# Altium footprint library TMDE_REV1.0.PcbLib: 84 footprints (part 4 of 6)
Each footprint in its own frame and in the unit in brackets; x right, y up, seen from the top. Pads: shape width x height; smd on the part's side, far side on the other; paste and mask are expansions set on the pad; w line width, h text height; cw(c..) or ccw(c..) is an arc to the next point about the centre after c.
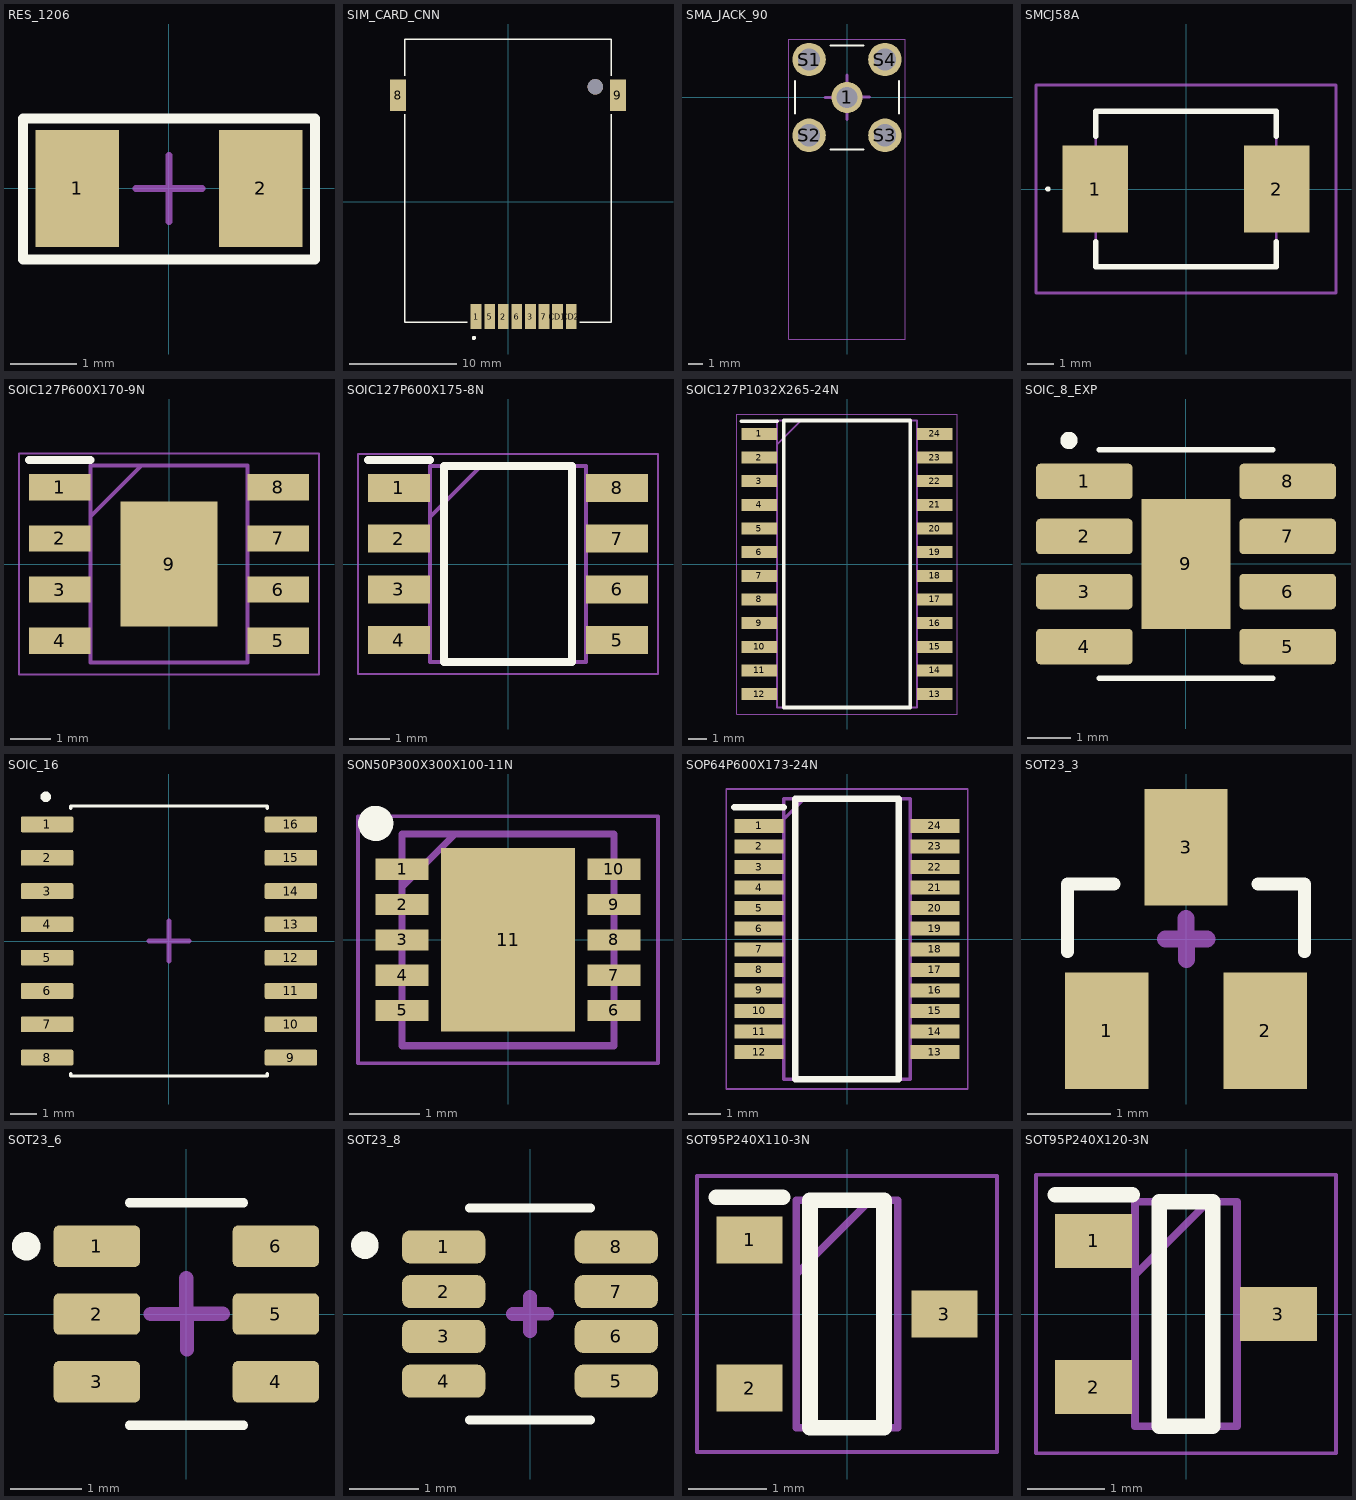
[diagram p3: the footprints below, top view; thin cyan lines are the x and y axes]

## RES_1206 [mm]
pads (2):
  rect 1.25x1.75 smd mask+0.102: 1(-1.375,0) 2(1.375,0)
Top Overlay:
  lines w0.15: -2.187,-1.063 -2.187,1.047 -1.232,1.047 2.187,1.047 2.187,-1.063 -2.187,-1.063
Mechanical 16:
  lines w0.1: -0.5,0 0.5,0 ; 0,-0.5 0,0.5
3D body "1206 SMD Resistor.STEP": height 1, standoff 0, extent -1.6,-0.8 1.6,0.8

## SIM_CARD_CNN [mm]
pads (11):
  rect 1x2.3 smd: 1(-2.985,-10.735) 2(-0.445,-10.735) 3(2.095,-10.735) 5(-1.715,-10.735) 6(0.825,-10.735) 7(3.365,-10.735) CD1(4.635,-10.735) CD2(5.905,-10.735)
  rect 1.5x2.95 smd: 8(-10.275,9.965) 9(10.275,9.965)
  round 1.45 hole 1.45 unplated: ""(8.165,10.735)
Top Overlay:
  circle w0.2: c-3.185,-12.735 r0.1
  lines w0.127: -9.675,8.165 -9.675,-11.285 -3.805,-11.285 ; -9.675,11.765 -9.675,15.215 9.675,15.215 9.675,11.765 ; 6.725,-11.285 9.675,-11.285 9.675,8.165
3D body "47553-2001.stp": height 1.94, standoff -0.56, extent -10.512,-11.662 10.438,14.838

## SMA_JACK_90 [mm]
pads (5):
  round 2.1 hole 1.4: 1(0,0)
  round 2.25 hole 1.5: S1(-2.55,2.55) S2(-2.55,-2.55) S3(2.55,-2.55) S4(2.55,2.55)
Top Overlay:
  lines w0.127: -3.5,-1.1 -3.5,1.1 ; -1.1,-3.5 1.1,-3.5 ; -1.1,3.5 1.1,3.5 ; 3.5,-1.1 3.5,1.1
Mechanical 15:
  lines w0.05: -3.93,-16.25 -3.93,3.93 3.93,3.93 3.93,-16.25 -3.93,-16.25
Mechanical 16:
  lines w0.2: -1.492,0.004 0.008,0.004 ; 0,0 0,1.5 ; 0.008,-1.486 0.008,0.014 1.508,0.014
3D body "step_temp.STEP": height 11.7, standoff -3.9, extent -5.071,-16.016 5.124,3.484

## SMCJ58A [mm]
pads (2):
  rect 2.5x3.3 smd: 1(-3.45,0) 2(3.45,0)
Top Overlay:
  lines w0.1: -5.3,0 cw(c-5.25,0) -5.2,0 cw(c-5.25,0) -5.3,0
  lines w0.2: -3.428,-2 -3.428,-2.953 3.428,-2.953 3.428,-2 ; -3.428,2 -3.428,2.953 3.428,2.953 3.428,2
Mechanical 13:
  lines w0.1: -3.428,-2.953 -3.428,2.953 3.428,2.953 3.428,-2.953 -3.428,-2.953
Mechanical 15:
  lines w0.1: -5.7,-3.953 -5.7,3.953 5.7,3.953 5.7,-3.953 -5.7,-3.953
3D body "SMCJ58A.stp": height 2.62, standoff 0, extent -3.97,-2.953 3.97,2.953

## SOIC127P600X170-9N [mm]
pads (9):
  rect 1.525x0.65 smd: 1(-2.712,1.905) 2(-2.712,0.635) 3(-2.712,-0.635) 4(-2.712,-1.905) 5(2.712,-1.905) 6(2.712,-0.635) 7(2.712,0.635) 8(2.712,1.905)
  rect 2.4x3.1 smd: 9(0,0)
Top Overlay:
  lines w0.2: -3.475,2.58 -1.95,2.58
Mechanical 13:
  lines w0.1: -1.95,1.18 -0.68,2.45 ; -1.95,-2.45 1.95,-2.45 1.95,2.45 -1.95,2.45 -1.95,-2.45
Mechanical 15:
  lines w0.05: -3.725,-2.75 3.725,-2.75 3.725,2.75 -3.725,2.75 -3.725,-2.75
3D body "TPS54360QDDARQ1.stp": height 1.57, standoff 0, extent -3,-2.45 3,2.45

## SOIC127P600X175-8N [mm]
pads (8):
  rect 1.55x0.7 smd: 1(-2.725,1.905) 2(-2.725,0.635) 3(-2.725,-0.635) 4(-2.725,-1.905) 5(2.725,-1.905) 6(2.725,-0.635) 7(2.725,0.635) 8(2.725,1.905)
Top Overlay:
  lines w0.2: -3.5,2.605 -1.95,2.605 ; -1.6,-2.45 -1.6,2.45 1.6,2.45 1.6,-2.45 -1.6,-2.45
Mechanical 13:
  lines w0.1: -1.95,1.18 -0.68,2.45 ; -1.95,-2.45 -1.95,2.45 1.95,2.45 1.95,-2.45 -1.95,-2.45
Mechanical 15:
  lines w0.05: -3.75,-2.75 -3.75,2.75 3.75,2.75 3.75,-2.75 -3.75,-2.75
3D body "TJA1042T_1J.stp": height 1.75, standoff 0, extent -3,-2.45 3,2.45

## SOIC127P1032X265-24N [mm]
pads (24):
  rect 1.925x0.65 smd: 1(-4.712,6.985) 2(-4.712,5.715) 3(-4.712,4.445) 4(-4.712,3.175) 5(-4.712,1.905) 6(-4.712,0.635) 7(-4.712,-0.635) 8(-4.712,-1.905) 9(-4.712,-3.175) 10(-4.712,-4.445) 11(-4.712,-5.715) 12(-4.712,-6.985) 13(4.712,-6.985) 14(4.712,-5.715) 15(4.712,-4.445) 16(4.712,-3.175) 17(4.712,-1.905) 18(4.712,-0.635) 19(4.712,0.635) 20(4.712,1.905) 21(4.712,3.175) 22(4.712,4.445) 23(4.712,5.715) 24(4.712,6.985)
Top Overlay:
  lines w0.2: -5.675,7.66 -3.75,7.66 ; -3.4,-7.7 3.4,-7.7 3.4,7.7 -3.4,7.7 -3.4,-7.7
Mechanical 13:
  lines w0.1: -3.75,6.43 -2.48,7.7 ; -3.75,-7.7 3.75,-7.7 3.75,7.7 -3.75,7.7 -3.75,-7.7
Mechanical 15:
  lines w0.05: -5.925,-8.05 5.925,-8.05 5.925,8.05 -5.925,8.05 -5.925,-8.05
3D body "MAX7219CWG+T.stp": height 2.65, standoff 0, extent -5.162,-7.7 5.162,7.7

## SOIC_8_EXP [mm]
pads (9):
  rrect25% 2.23x0.82 smd: 1(-2.345,1.905) 2(-2.345,0.635) 3(-2.345,-0.635) 4(-2.345,-1.905) 5(2.345,-1.905) 6(2.345,-0.635) 7(2.345,0.635) 8(2.345,1.905)
  rect 2.06x3 smd paste-3: 9(0,0)
Top Overlay:
  circle w0.2: c-2.7,2.85 r0.1
  lines w0.127: -2,-2.635 2,-2.635 ; -2,2.635 2,2.635
Top Paste:
  region: 0.515,-0.75 -0.515,-0.75 -0.515,0.75 0.515,0.75
Mechanical 16:
  lines w0.254: -0.651,-0.007 -0.016,-0.007 -0.016,-0.642 ; -0.016,0.018 0.619,0.018 ; 0,0 0,0.635
3D body "IC8_AP64351SP-13_DIO.step": height 1.63, standoff -0.05, extent -3.073,-2.476 3.027,2.476

## SOIC_16 [mm]
pads (16):
  rrect17% 2x0.6 smd mask+0: 1(-4.65,4.445) 2(-4.65,3.175) 3(-4.65,1.905) 4(-4.65,0.635) 5(-4.65,-0.635) 6(-4.65,-1.905) 7(-4.65,-3.175) 8(-4.65,-4.445) 9(4.65,-4.445) 10(4.65,-3.175) 11(4.65,-1.905) 12(4.65,-0.635) 13(4.65,0.635) 14(4.65,1.905) 15(4.65,3.175) 16(4.65,4.445)
Top Overlay:
  circle w0.2: c-4.7,5.5 r0.1
  lines w0.127: -3.75,-5.065 -3.75,-5.15 3.75,-5.15 3.75,-5.065 ; -3.75,5.065 -3.75,5.15 3.75,5.15 3.75,5.065
Top Solder:
  drawing of 16 lines, arcs and shapes, not listed
Mechanical 16:
  lines w0.2: -0.75,0 0,0 ; 0,-0.75 0,0 ; 0,0.75 0,0 ; 0.75,0 0,0
3D body "step_temp.STEP": height 2.65, standoff 0, extent -5.15,-5.15 5.15,5.15

## SON50P300X300X100-11N [mm]
pads (11):
  rect 0.75x0.3 smd: 1(-1.5,1) 2(-1.5,0.5) 3(-1.5,0) 4(-1.5,-0.5) 5(-1.5,-1) 6(1.5,-1) 7(1.5,-0.5) 8(1.5,0) 9(1.5,0.5) 10(1.5,1)
  rect 1.9x2.6 smd: 11(0,0)
Top Overlay:
  circle w0.25: c-1.875,1.65 r0.125
Mechanical 13:
  lines w0.1: -1.5,0.75 -0.75,1.5 ; -1.5,-1.5 -1.5,1.5 1.5,1.5 1.5,-1.5 -1.5,-1.5
Mechanical 15:
  lines w0.05: -2.125,-1.75 -2.125,1.75 2.125,1.75 2.125,-1.75 -2.125,-1.75
3D body "NCP59744MN1ADJTBG.stp": height 1, standoff 0, extent -1.55,-1.5 1.55,1.5

## SOP64P600X173-24N [mm]
pads (24):
  rect 1.522x0.435 smd: 1(-2.714,3.492) 2(-2.714,2.858) 3(-2.714,2.222) 4(-2.714,1.588) 5(-2.714,0.952) 6(-2.714,0.318) 7(-2.714,-0.318) 8(-2.714,-0.952) 9(-2.714,-1.588) 10(-2.714,-2.222) 11(-2.714,-2.858) 12(-2.714,-3.492) 13(2.714,-3.492) 14(2.714,-2.858) 15(2.714,-2.222) 16(2.714,-1.588) 17(2.714,-0.952) 18(2.714,-0.318) 19(2.714,0.318) 20(2.714,0.952) 21(2.714,1.588) 22(2.714,2.222) 23(2.714,2.858) 24(2.714,3.492)
Top Overlay:
  lines w0.2: -3.475,4.06 -1.952,4.06 ; -1.602,-4.33 -1.602,4.33 1.602,4.33 1.602,-4.33 -1.602,-4.33
Mechanical 13:
  lines w0.1: -1.952,3.695 -1.318,4.33 ; -1.952,-4.33 -1.952,4.33 1.952,4.33 1.952,-4.33 -1.952,-4.33
Mechanical 15:
  lines w0.05: -3.725,-4.63 -3.725,4.63 3.725,4.63 3.725,-4.63 -3.725,-4.63
3D body "STP16CP05PTR.stp": height 1.73, standoff 0, extent -3,-4.33 3,4.33

## SOT23_3 [mm]
pads (3):
  rect 1x1.4 smd: 1(-0.95,-1.1) 2(0.95,-1.1) 3(0,1.1)
Top Overlay:
  lines w0.152: -1.422,-0.152 -1.422,0.66 -0.864,0.66 ; 0.864,0.66 1.422,0.66 1.422,-0.152
Mechanical 16:
  lines w0.2: -0.25,0 0,0 0,0.25 ; 0.003,0.001 0.253,0.001 ; 0.006,-0.249 0.006,0.001
3D body "PESD5V0U2BT,215.STEP": height 1.1, standoff 0, extent -1.45,-1.3 1.45,1

## SOT23_6 [mm]
pads (6):
  rrect25% 1.21x0.58 smd: 1(-1.255,0.95) 2(-1.255,0) 3(-1.255,-0.95) 4(1.255,-0.95) 5(1.255,0) 6(1.255,0.95)
Top Overlay:
  circle w0.2: c-2.247,0.951 r0.1
  lines w0.127: -0.8,-1.56 0.8,-1.56 ; -0.8,1.56 0.8,1.56
Mechanical 16:
  lines w0.2: -0.5,0 0,0 0,0.5 ; 0.011,-0.496 0.011,0.004 0.511,0.004
3D body "step_temp.STEP": height 1.1, standoff 0, extent -1.375,-1.5 1.375,1.5

## SOT23_8 [mm]
pads (8):
  rrect50% 1.21x0.48 smd: 1(-1.255,0.975) 2(-1.255,0.325) 3(-1.255,-0.325) 4(-1.255,-0.975) 5(1.255,-0.975) 6(1.255,-0.325) 7(1.255,0.325) 8(1.255,0.975)
Top Overlay:
  circle w0.2: c-2.4,1 r0.1
  lines w0.127: -0.88,-1.54 0.88,-1.54 ; -0.88,1.54 0.88,1.54
Mechanical 16:
  lines w0.2: -0.25,-0.001 0,-0.001 0,0.25 ; 0,-0.248 0,0.002 ; 0,0.005 0.25,0.005
3D body "TLV3502AIDCNR.STEP": height 1.45, standoff 0, extent -1.45,-1.45 1.35,1.45

## SOT95P240X110-3N [mm]
pads (3):
  rect 0.85x0.6 smd: 1(-1.25,0.95) 2(-1.25,-0.95) 3(1.25,0)
Top Overlay:
  lines w0.2: -1.675,1.5 -0.825,1.5 ; -0.475,-1.46 0.475,-1.46 0.475,1.46 -0.475,1.46 -0.475,-1.46
Mechanical 13:
  lines w0.1: -0.65,0.51 0.3,1.46 ; -0.65,-1.46 0.65,-1.46 0.65,1.46 -0.65,1.46 -0.65,-1.46
Mechanical 15:
  lines w0.05: -1.925,-1.77 1.925,-1.77 1.925,1.77 -1.925,1.77 -1.925,-1.77
3D body "BZX84B18.stp": height 1, standoff 0, extent -1.2,-1.46 1.2,1.46

## SOT95P240X120-3N [mm]
pads (3):
  rect 1x0.7 smd: 1(-1.2,0.95) 2(-1.2,-0.95) 3(1.2,0)
Top Overlay:
  lines w0.2: -1.7,1.55 -0.7,1.55 ; -0.35,-1.46 0.35,-1.46 0.35,1.46 -0.35,1.46 -0.35,-1.46
Mechanical 13:
  lines w0.1: -0.662,0.51 0.288,1.46 ; -0.662,-1.46 0.662,-1.46 0.662,1.46 -0.662,1.46 -0.662,-1.46
Mechanical 15:
  lines w0.05: -1.95,-1.81 1.95,-1.81 1.95,1.81 -1.95,1.81 -1.95,-1.81
3D body "BZX84C15.stp": height 1.2, standoff 0, extent -1.2,-1.46 1.2,1.46